# EAGLE library part OPA_LM358 (library akita)
LM358
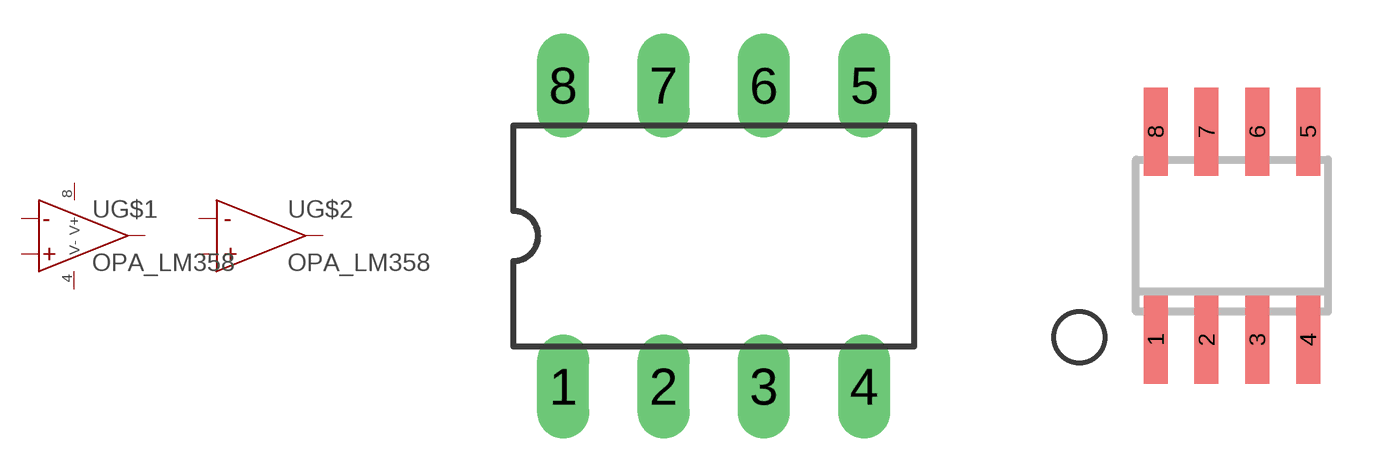
[diagram p48: symbol with the pads of DIL08; footprints DIL08, SO08]

Designator prefix U; gates G$1=OPA_SGL G$2=OPA_SGL_NOPOW

## OPA_LM358DIP  [DIL08]
1  G$1:VO
2  G$1:INM
3  G$1:INP
4  G$1:V-
5  G$2:INP
6  G$2:INM
7  G$2:VO
8  G$1:V+

## OPA_LM358SO8  [SO08]
Pads as for DIL08

## Footprint DIL08 (pad centres in mm)
Dual In Line
drill 0.813 long: 1 -3.81,-3.81; 2 -1.27,-3.81; 3 1.27,-3.81; 4 3.81,-3.81; 5 3.81,3.81; 6 1.27,3.81; 7 -1.27,3.81; 8 -3.81,3.81

## Footprint SO08 (pad centres in mm)
SMALL OUTLINE INTEGRATED CIRCUIT body 3.9 mm/JEDEC MS-012AA
smd 0.6 x 2.2: 1 -1.905,-2.6; 2 -0.635,-2.6; 3 0.635,-2.6; 4 1.905,-2.6; 5 1.905,2.6; 6 0.635,2.6; 7 -0.635,2.6; 8 -1.905,2.6